# Altium schematic symbol library CAP - Tantalum Capacitors.SchLib: 1 symbol
Pins are listed as number, name and electrical type; pins without a type are passive.

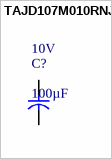
[diagram p0: symbol TAJD107M010RNJ]

## TAJD107M010RNJ
designator C?, comment 100µF  Voltage - Rated: 10V
CAP TANT 100UF 10V 20% 2917; Manufacturer: AVX Corporation; Manufacturer Part Number: TAJD107M010RNJ; Manufacturer Size Code: D; Type: Molded; ESR (Equivalent Series Resistance): 700 mOhm; Supplier 1: Digi-Key; Supplier Part Number 1: 478-3918-1-ND; RoHS: RoHS Compliant; Category: Capacitors; Stock 1: 594; Pricing 1: 1=0.79, 10=0.58, 25=0.4968, 50=0.4636, 100=0.3974, 250=0.36432 (USD); Packaging: Cut Tape (CT); Part Status: Active; Capacitance: 100µF; Tolerance: ±20%; Operating Temperature: -55°C ~ 125°C; Lifetime @ Temp.: -; Mounting Type: Surface Mount; Size / Dimension: 0.287" L x 0.169" W (7.30mm x 4.30mm); Height - Seated (Max): 0.122" (3.10mm); Lead Spacing: -; Features: General Purpose; Failure Rate: -; ComponentLink1URL: http://datasheets.avx.com/TAJ.pdf; ComponentLink1Description: http://datasheets.avx.com/TAJ.pdf; Package: 2917 (7343 Metric)
footprint CTAN-D
pins: 1, 2